# Altium integrated library Capacitor - Aluminium TH.IntLib: 4591 symbols (part 58 of 68)
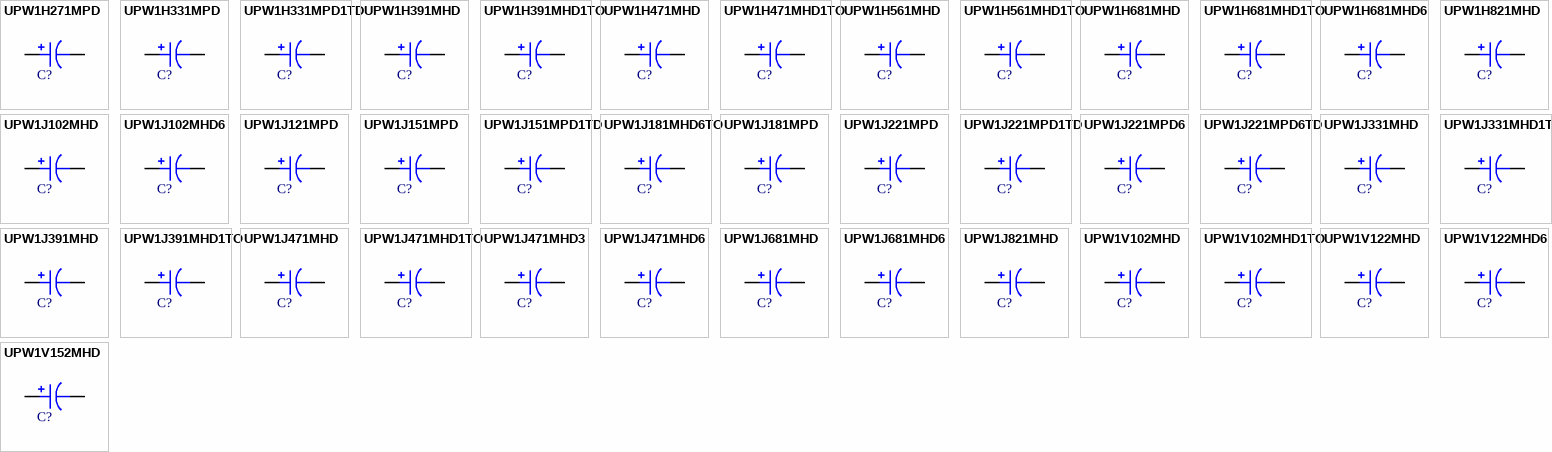
[diagram p171: symbols UPW1H271MPD to UPW1V152MHD]

## UPW1H561MHD
designator C?, comment 560uF  (value not drawn)
CAP ALUM 560UF 20% 50V RADIAL; Part Number: UPW1H561MHD; Manufacturer: Nichicon; TemperatureRange: -55C ~ 105C; Type: Polar; Ripple Current: 1.374A @ 120Hz; Impedance: 50 mOhm; Value: 560uF; PartId: 23567; Supplier 1: Digi-Key; Supplier Part Number 1: 493-1912-ND; ComponentLink1Description: Datasheet; ComponentLink1URL: http://nichicon-us.com/english/products/pdfs/e-upw.pdf; ComponentLink2Description: Digi-Key Listing; ComponentLink2URL: https://www.digikey.com/product-detail/en/nichicon/UPW1H561MHD/493-1912-ND/589653; Tolerance: 20%; Voltage: 50V; Price: 0.93; Device Package: Radial, Can, 12.5mm
footprint CAP AL TH D12.5 L5 H25
pins: 1, 2

## UPW1H561MHD1TO
designator C?, comment 560uF  (value not drawn)
CAP ALUM 560UF 20% 50V RADIAL; Part Number: UPW1H561MHD1TO; Manufacturer: Nichicon; TemperatureRange: -55C ~ 105C; Type: Polar; Ripple Current: 1.374A @ 120Hz; Impedance: 50 mOhm; Value: 560uF; PartId: 23808; Supplier 1: Digi-Key; Supplier Part Number 1: 493-12133-3-ND; ComponentLink1Description: Datasheet; ComponentLink1URL: http://nichicon-us.com/english/products/pdfs/e-upw.pdf; ComponentLink2Description: Digi-Key Listing; ComponentLink2URL: https://www.digikey.com/product-detail/en/nichicon/UPW1H561MHD1TO/493-12133-3-ND/4321276; Tolerance: 20%; Voltage: 50V; Price: 0.3922; Device Package: Radial, Can, 12.5mm
footprint CAP AL TH D12.5 L5 H27
pins: 1, 2

## UPW1H681MHD
designator C?, comment 680uF  (value not drawn)
CAP ALUM 680UF 20% 50V RADIAL; Part Number: UPW1H681MHD; Manufacturer: Nichicon; TemperatureRange: -55C ~ 105C; Type: Polar; Ripple Current: 1.38A @ 120Hz; Impedance: 50 mOhm; Value: 680uF; PartId: 23595; Supplier 1: Digi-Key; Supplier Part Number 1: 493-1913-ND; ComponentLink1Description: Datasheet; ComponentLink1URL: http://nichicon-us.com/english/products/pdfs/e-upw.pdf; ComponentLink2Description: Digi-Key Listing; ComponentLink2URL: https://www.digikey.com/product-detail/en/nichicon/UPW1H681MHD/493-1913-ND/589654; Tolerance: 20%; Voltage: 50V; Price: 1.04; Device Package: Radial, Can, 12.5mm
footprint CAP AL TH D12.5 L5 H25
pins: 1, 2

## UPW1H681MHD1TO
designator C?, comment 680uF  (value not drawn)
CAP ALUM 680UF 20% 50V RADIAL; Part Number: UPW1H681MHD1TO; Manufacturer: Nichicon; TemperatureRange: -55C ~ 105C; Type: Polar; Ripple Current: 1.38A @ 120Hz; Impedance: 50 mOhm; Value: 680uF; PartId: 23997; Supplier 1: Digi-Key; Supplier Part Number 1: 493-12171-1-ND; ComponentLink1Description: Datasheet; ComponentLink1URL: http://nichicon-us.com/english/products/pdfs/e-upw.pdf; ComponentLink2Description: Digi-Key Listing; ComponentLink2URL: https://www.digikey.com/product-detail/en/nichicon/UPW1H681MHD1TO/493-12171-1-ND/4320002; Tolerance: 20%; Voltage: 50V; Price: 1.04; Device Package: Radial, Can, 12.5mm
footprint CAP AL TH D12.5 L5 H27
pins: 1, 2

## UPW1H681MHD6
designator C?, comment 680uF  (value not drawn)
CAP ALUM 680UF 20% 50V RADIAL; Part Number: UPW1H681MHD6; Manufacturer: Nichicon; TemperatureRange: -55C ~ 105C; Type: Polar; Ripple Current: 1.38A @ 120Hz; Impedance: 48 mOhm; Value: 680uF; PartId: 26282; Supplier 1: Digi-Key; Supplier Part Number 1: 493-1914-ND; ComponentLink1Description: Datasheet; ComponentLink1URL: http://nichicon-us.com/english/products/pdfs/e-upw.pdf; ComponentLink2Description: Digi-Key Listing; ComponentLink2URL: https://www.digikey.com/product-detail/en/nichicon/UPW1H681MHD6/493-1914-ND/589655; Tolerance: 20%; Voltage: 50V; Price: 0.99; Device Package: Radial, Can, 16mm
footprint CAP AL TH D16 L7.5 H20
pins: 1, 2

## UPW1H821MHD
designator C?, comment 820uF  (value not drawn)
CAP ALUM 820UF 20% 50V RADIAL; Part Number: UPW1H821MHD; Manufacturer: Nichicon; TemperatureRange: -55C ~ 105C; Type: Polar; Ripple Current: 1.718A @ 120Hz; Impedance: 34 mOhm; Value: 820uF; PartId: 24322; Supplier 1: Digi-Key; Supplier Part Number 1: 493-1915-ND; ComponentLink1Description: Datasheet; ComponentLink1URL: http://nichicon-us.com/english/products/pdfs/e-upw.pdf; ComponentLink2Description: Digi-Key Listing; ComponentLink2URL: https://www.digikey.com/product-detail/en/nichicon/UPW1H821MHD/493-1915-ND/589656; Tolerance: 20%; Voltage: 50V; Price: 1.27; Device Package: Radial, Can, 12.5mm
footprint CAP AL TH D12.5 L5 H35.5
pins: 1, 2

## UPW1J102MHD
designator C?, comment 1000uF  (value not drawn)
CAP ALUM 1000UF 20% 63V RADIAL; Part Number: UPW1J102MHD; Manufacturer: Nichicon; TemperatureRange: -55C ~ 105C; Type: Polar; Ripple Current: 2.078A @ 120Hz; Impedance: 43 mOhm; Value: 1000uF; PartId: 27069; Supplier 1: Digi-Key; Supplier Part Number 1: 493-1956-ND; ComponentLink1Description: Datasheet; ComponentLink1URL: http://nichicon-us.com/english/products/pdfs/e-upw.pdf; ComponentLink2Description: Digi-Key Listing; ComponentLink2URL: https://www.digikey.com/product-detail/en/nichicon/UPW1J102MHD/493-1956-ND/589697; Tolerance: 20%; Voltage: 63V; Price: 1.64; Device Package: Radial, Can, 16mm
footprint CAP AL TH D16 L7.5 H33.5
pins: 1, 2

## UPW1J102MHD6
designator C?, comment 1000uF  (value not drawn)
CAP ALUM 1000UF 20% 63V RADIAL; Part Number: UPW1J102MHD6; Manufacturer: Nichicon; TemperatureRange: -55C ~ 105C; Type: Polar; Ripple Current: 2.078A @ 120Hz; Impedance: 36 mOhm; Value: 1000uF; PartId: 27333; Supplier 1: Digi-Key; Supplier Part Number 1: 493-1957-ND; ComponentLink1Description: Datasheet; ComponentLink1URL: http://nichicon-us.com/english/products/pdfs/e-upw.pdf; ComponentLink2Description: Digi-Key Listing; ComponentLink2URL: https://www.digikey.com/product-detail/en/nichicon/UPW1J102MHD6/493-1957-ND/589698; Tolerance: 20%; Voltage: 63V; Price: 1.63; Device Package: Radial, Can, 16mm
footprint CAP AL TH D16 L7.5 H37
pins: 1, 2

## UPW1J121MPD
designator C?, comment 120uF  (value not drawn)
CAP ALUM 120UF 20% 63V RADIAL; Part Number: UPW1J121MPD; Manufacturer: Nichicon; TemperatureRange: -55C ~ 105C; Type: Polar; Ripple Current: 390mA @ 120Hz; Impedance: 194 mOhm; Value: 120uF; PartId: 25228; Supplier 1: Digi-Key; Supplier Part Number 1: 493-1938-ND; ComponentLink1Description: Datasheet; ComponentLink1URL: http://nichicon-us.com/english/products/pdfs/e-upw.pdf; ComponentLink2Description: Digi-Key Listing; ComponentLink2URL: https://www.digikey.com/product-detail/en/nichicon/UPW1J121MPD/493-1938-ND/589679; Tolerance: 20%; Voltage: 63V; Price: 0.55; Device Package: Radial, Can, 10mm
footprint CAP AL TH D10 L5 H17.5
pins: 1, 2

## UPW1J151MPD
designator C?, comment 150uF  (value not drawn)
CAP ALUM 150UF 20% 63V RADIAL; Part Number: UPW1J151MPD; Manufacturer: Nichicon; TemperatureRange: -55C ~ 105C; Type: Polar; Ripple Current: 429mA @ 120Hz; Impedance: 194 mOhm; Value: 150uF; PartId: 25208; Supplier 1: Digi-Key; Supplier Part Number 1: 493-1939-ND; ComponentLink1Description: Datasheet; ComponentLink1URL: http://nichicon-us.com/english/products/pdfs/e-upw.pdf; ComponentLink2Description: Digi-Key Listing; ComponentLink2URL: https://www.digikey.com/product-detail/en/nichicon/UPW1J151MPD/493-1939-ND/589680; Tolerance: 20%; Voltage: 63V; Price: 0.51; Device Package: Radial, Can, 10mm
footprint CAP AL TH D10 L5 H17.5
pins: 1, 2

## UPW1J151MPD1TD
designator C?, comment 150uF  (value not drawn)
CAP ALUM 150UF 20% 63V RADIAL; Part Number: UPW1J151MPD1TD; Manufacturer: Nichicon; TemperatureRange: -55C ~ 105C; Type: Polar; Ripple Current: 429mA @ 120Hz; Impedance: 194 mOhm; Value: 150uF; PartId: 25032; Supplier 1: Digi-Key; Supplier Part Number 1: 493-11873-3-ND; ComponentLink1Description: Datasheet; ComponentLink1URL: http://nichicon-us.com/english/products/pdfs/e-upw.pdf; ComponentLink2Description: Digi-Key Listing; ComponentLink2URL: https://www.digikey.com/product-detail/en/nichicon/UPW1J151MPD1TD/493-11873-3-ND/4321016; Tolerance: 20%; Voltage: 63V; Price: 0.1766; Device Package: Radial, Can, 10mm
footprint CAP AL TH D10 L5 H17.5
pins: 1, 2

## UPW1J181MHD6TO
designator C?, comment 180uF  (value not drawn)
CAP ALUM 180UF 20% 63V RADIAL; Part Number: UPW1J181MHD6TO; Manufacturer: Nichicon; TemperatureRange: -55C ~ 105C; Type: Polar; Ripple Current: 663mA @ 120Hz; Impedance: 150 mOhm; Value: 180uF; PartId: 22749; Supplier 1: Digi-Key; Supplier Part Number 1: 493-12046-1-ND; ComponentLink1Description: Datasheet; ComponentLink1URL: http://nichicon-us.com/english/products/pdfs/e-upw.pdf; ComponentLink2Description: Digi-Key Listing; ComponentLink2URL: https://www.digikey.com/product-detail/en/nichicon/UPW1J181MHD6TO/493-12046-1-ND/4320015; Tolerance: 20%; Voltage: 63V; Price: 0; Device Package: Radial, Can, 12.5mm
footprint CAP AL TH D12.5 L5 H16.5
pins: 1, 2

## UPW1J181MPD
designator C?, comment 180uF  (value not drawn)
CAP ALUM 180UF 20% 63V RADIAL; Part Number: UPW1J181MPD; Manufacturer: Nichicon; TemperatureRange: -55C ~ 105C; Type: Polar; Ripple Current: 578.5mA @ 120Hz; Impedance: 147 mOhm; Value: 180uF; PartId: 25650; Supplier 1: Digi-Key; Supplier Part Number 1: 493-1941-ND; ComponentLink1Description: Datasheet; ComponentLink1URL: http://nichicon-us.com/english/products/pdfs/e-upw.pdf; ComponentLink2Description: Digi-Key Listing; ComponentLink2URL: https://www.digikey.com/product-detail/en/nichicon/UPW1J181MPD/493-1941-ND/589682; Tolerance: 20%; Voltage: 63V; Price: 0.74; Device Package: Radial, Can, 10mm
footprint CAP AL TH D10 L5 H22
pins: 1, 2

## UPW1J221MPD
designator C?, comment 220uF  (value not drawn)
CAP ALUM 220UF 20% 63V RADIAL; Part Number: UPW1J221MPD; Manufacturer: Nichicon; TemperatureRange: -55C ~ 105C; Type: Polar; Ripple Current: 575.3mA @ 120Hz; Impedance: 147 mOhm; Value: 220uF; PartId: 25609; Supplier 1: Digi-Key; Supplier Part Number 1: 493-1942-ND; ComponentLink1Description: Datasheet; ComponentLink1URL: http://nichicon-us.com/english/products/pdfs/e-upw.pdf; ComponentLink2Description: Digi-Key Listing; ComponentLink2URL: https://www.digikey.com/product-detail/en/nichicon/UPW1J221MPD/493-1942-ND/589683; Tolerance: 20%; Voltage: 63V; Price: 0.7; Device Package: Radial, Can, 10mm
footprint CAP AL TH D10 L5 H22
pins: 1, 2

## UPW1J221MPD1TD
designator C?, comment 220uF  (value not drawn)
CAP ALUM 220UF 20% 63V RADIAL; Part Number: UPW1J221MPD1TD; Manufacturer: Nichicon; TemperatureRange: -55C ~ 105C; Type: Polar; Ripple Current: 575.3mA @ 120Hz; Impedance: 147 mOhm; Value: 220uF; PartId: 25776; Supplier 1: Digi-Key; Supplier Part Number 1: 493-11969-3-ND; ComponentLink1Description: Datasheet; ComponentLink1URL: http://nichicon-us.com/english/products/pdfs/e-upw.pdf; ComponentLink2Description: Digi-Key Listing; ComponentLink2URL: https://www.digikey.com/product-detail/en/nichicon/UPW1J221MPD1TD/493-11969-3-ND/4321112; Tolerance: 20%; Voltage: 63V; Price: 0.2426; Device Package: Radial, Can, 10mm
footprint CAP AL TH D10 L5 H22
pins: 1, 2

## UPW1J221MPD6
designator C?, comment 220uF  (value not drawn)
CAP ALUM 220UF 20% 63V RADIAL; Part Number: UPW1J221MPD6; Manufacturer: Nichicon; TemperatureRange: -55C ~ 105C; Type: Polar; Ripple Current: 683mA @ 120Hz; Impedance: 130 mOhm; Value: 220uF; PartId: 26138; Supplier 1: Digi-Key; Supplier Part Number 1: 493-1943-ND; ComponentLink1Description: Datasheet; ComponentLink1URL: http://nichicon-us.com/english/products/pdfs/e-upw.pdf; ComponentLink2Description: Digi-Key Listing; ComponentLink2URL: https://www.digikey.com/product-detail/en/nichicon/UPW1J221MPD6/493-1943-ND/589684; Tolerance: 20%; Voltage: 63V; Price: 0.82; Device Package: Radial, Can, 10mm
footprint CAP AL TH D10 L5 H30
pins: 1, 2

## UPW1J221MPD6TD
designator C?, comment 220uF  (value not drawn)
CAP ALUM 220UF 20% 63V RADIAL; Part Number: UPW1J221MPD6TD; Manufacturer: Nichicon; TemperatureRange: -55C ~ 105C; Type: Polar; Ripple Current: 683mA @ 120Hz; Impedance: 130 mOhm; Value: 220uF; PartId: 26017; Supplier 1: Digi-Key; Supplier Part Number 1: 493-12090-3-ND; ComponentLink1Description: Datasheet; ComponentLink1URL: http://nichicon-us.com/english/products/pdfs/e-upw.pdf; ComponentLink2Description: Digi-Key Listing; ComponentLink2URL: https://www.digikey.com/product-detail/en/nichicon/UPW1J221MPD6TD/493-12090-3-ND/4321233; Tolerance: 20%; Voltage: 63V; Price: 0.3439; Device Package: Radial, Can, 10mm
footprint CAP AL TH D10 L5 H30
pins: 1, 2

## UPW1J331MHD
designator C?, comment 330uF  (value not drawn)
CAP ALUM 330UF 20% 63V RADIAL; Part Number: UPW1J331MHD; Manufacturer: Nichicon; TemperatureRange: -55C ~ 105C; Type: Polar; Ripple Current: 839mA @ 120Hz; Impedance: 85 mOhm; Value: 330uF; PartId: 22872; Supplier 1: Digi-Key; Supplier Part Number 1: 493-1945-ND; ComponentLink1Description: Datasheet; ComponentLink1URL: http://nichicon-us.com/english/products/pdfs/e-upw.pdf; ComponentLink2Description: Digi-Key Listing; ComponentLink2URL: https://www.digikey.com/product-detail/en/nichicon/UPW1J331MHD/493-1945-ND/589686; Tolerance: 20%; Voltage: 63V; Price: 0; Device Package: Radial, Can, 12.5mm
footprint CAP AL TH D12.5 L5 H20
pins: 1, 2

## UPW1J331MHD1TO
designator C?, comment 330uF  (value not drawn)
CAP ALUM 330UF 20% 63V RADIAL; Part Number: UPW1J331MHD1TO; Manufacturer: Nichicon; TemperatureRange: -55C ~ 105C; Type: Polar; Ripple Current: 839mA @ 120Hz; Impedance: 85 mOhm; Value: 330uF; PartId: 23152; Supplier 1: Digi-Key; Supplier Part Number 1: 493-12026-3-ND; ComponentLink1Description: Datasheet; ComponentLink1URL: http://nichicon-us.com/english/products/pdfs/e-upw.pdf; ComponentLink2Description: Digi-Key Listing; ComponentLink2URL: https://www.digikey.com/product-detail/en/nichicon/UPW1J331MHD1TO/493-12026-3-ND/4321169; Tolerance: 20%; Voltage: 63V; Price: 0.2973; Device Package: Radial, Can, 12.5mm
footprint CAP AL TH D12.5 L5 H22
pins: 1, 2

## UPW1J391MHD
designator C?, comment 390uF  (value not drawn)
CAP ALUM 390UF 20% 63V RADIAL; Part Number: UPW1J391MHD; Manufacturer: Nichicon; TemperatureRange: -55C ~ 105C; Type: Polar; Ripple Current: 1.29A @ 120Hz; Impedance: 70 mOhm; Value: 390uF; PartId: 23560; Supplier 1: Digi-Key; Supplier Part Number 1: 493-1946-ND; ComponentLink1Description: Datasheet; ComponentLink1URL: http://nichicon-us.com/english/products/pdfs/e-upw.pdf; ComponentLink2Description: Digi-Key Listing; ComponentLink2URL: https://www.digikey.com/product-detail/en/nichicon/UPW1J391MHD/493-1946-ND/589687; Tolerance: 20%; Voltage: 63V; Price: 0.87; Device Package: Radial, Can, 12.5mm
footprint CAP AL TH D12.5 L5 H25
pins: 1, 2

## UPW1J391MHD1TO
designator C?, comment 390uF  (value not drawn)
CAP ALUM 390UF 20% 63V RADIAL; Part Number: UPW1J391MHD1TO; Manufacturer: Nichicon; TemperatureRange: -55C ~ 105C; Type: Polar; Ripple Current: 1.29A @ 120Hz; Impedance: 70 mOhm; Value: 390uF; PartId: 23960; Supplier 1: Digi-Key; Supplier Part Number 1: 493-12110-1-ND; ComponentLink1Description: Datasheet; ComponentLink1URL: http://nichicon-us.com/english/products/pdfs/e-upw.pdf; ComponentLink2Description: Digi-Key Listing; ComponentLink2URL: https://www.digikey.com/product-detail/en/nichicon/UPW1J391MHD1TO/493-12110-1-ND/4320024; Tolerance: 20%; Voltage: 63V; Price: 0.98; Device Package: Radial, Can, 12.5mm
footprint CAP AL TH D12.5 L5 H27
pins: 1, 2

## UPW1J471MHD
designator C?, comment 470uF  (value not drawn)
CAP ALUM 470UF 20% 63V RADIAL; Part Number: UPW1J471MHD; Manufacturer: Nichicon; TemperatureRange: -55C ~ 105C; Type: Polar; Ripple Current: 1.29A @ 120Hz; Impedance: 70 mOhm; Value: 470uF; PartId: 23556; Supplier 1: Digi-Key; Supplier Part Number 1: 493-1948-ND; ComponentLink1Description: Datasheet; ComponentLink1URL: http://nichicon-us.com/english/products/pdfs/e-upw.pdf; ComponentLink2Description: Digi-Key Listing; ComponentLink2URL: https://www.digikey.com/product-detail/en/nichicon/UPW1J471MHD/493-1948-ND/589689; Tolerance: 20%; Voltage: 63V; Price: 0.87; Device Package: Radial, Can, 12.5mm
footprint CAP AL TH D12.5 L5 H25
pins: 1, 2

## UPW1J471MHD1TO
designator C?, comment 470uF  (value not drawn)
CAP ALUM 470UF 20% 63V RADIAL; Part Number: UPW1J471MHD1TO; Manufacturer: Nichicon; TemperatureRange: -55C ~ 105C; Type: Polar; Ripple Current: 1.29A @ 120Hz; Impedance: 70 mOhm; Value: 470uF; PartId: 23946; Supplier 1: Digi-Key; Supplier Part Number 1: 493-12108-1-ND; ComponentLink1Description: Datasheet; ComponentLink1URL: http://nichicon-us.com/english/products/pdfs/e-upw.pdf; ComponentLink2Description: Digi-Key Listing; ComponentLink2URL: https://www.digikey.com/product-detail/en/nichicon/UPW1J471MHD1TO/493-12108-1-ND/4320027; Tolerance: 20%; Voltage: 63V; Price: 0.97; Device Package: Radial, Can, 12.5mm
footprint CAP AL TH D12.5 L5 H27
pins: 1, 2

## UPW1J471MHD3
designator C?, comment 470uF  (value not drawn)
CAP ALUM 470UF 20% 63V RADIAL; Part Number: UPW1J471MHD3; Manufacturer: Nichicon; TemperatureRange: -55C ~ 105C; Type: Polar; Ripple Current: 2.52A @ 120Hz; Impedance: 59 mOhm; Value: 470uF; PartId: 26279; Supplier 1: Digi-Key; Supplier Part Number 1: 493-1949-ND; ComponentLink1Description: Datasheet; ComponentLink1URL: http://nichicon-us.com/english/products/pdfs/e-upw.pdf; ComponentLink2Description: Digi-Key Listing; ComponentLink2URL: https://www.digikey.com/product-detail/en/nichicon/UPW1J471MHD3/493-1949-ND/589690; Tolerance: 20%; Voltage: 63V; Price: 0.96; Device Package: Radial, Can, 16mm
footprint CAP AL TH D16 L7.5 H20
pins: 1, 2

## UPW1J471MHD6
designator C?, comment 470uF  (value not drawn)
CAP ALUM 470UF 20% 63V RADIAL; Part Number: UPW1J471MHD6; Manufacturer: Nichicon; TemperatureRange: -55C ~ 105C; Type: Polar; Ripple Current: 1.568A @ 120Hz; Impedance: 55 mOhm; Value: 470uF; PartId: 24217; Supplier 1: Digi-Key; Supplier Part Number 1: 493-1950-ND; ComponentLink1Description: Datasheet; ComponentLink1URL: http://nichicon-us.com/english/products/pdfs/e-upw.pdf; ComponentLink2Description: Digi-Key Listing; ComponentLink2URL: https://www.digikey.com/product-detail/en/nichicon/UPW1J471MHD6/493-1950-ND/589691; Tolerance: 20%; Voltage: 63V; Price: 0.96; Device Package: Radial, Can, 12.5mm
footprint CAP AL TH D12.5 L5 H35.5
pins: 1, 2

## UPW1J681MHD
designator C?, comment 680uF  (value not drawn)
CAP ALUM 680UF 20% 63V RADIAL; Part Number: UPW1J681MHD; Manufacturer: Nichicon; TemperatureRange: -55C ~ 105C; Type: Polar; Ripple Current: 1.62A @ 120Hz; Impedance: 50 mOhm; Value: 680uF; PartId: 26554; Supplier 1: Digi-Key; Supplier Part Number 1: 493-1951-ND; ComponentLink1Description: Datasheet; ComponentLink1URL: http://nichicon-us.com/english/products/pdfs/e-upw.pdf; ComponentLink2Description: Digi-Key Listing; ComponentLink2URL: https://www.digikey.com/product-detail/en/nichicon/UPW1J681MHD/493-1951-ND/589692; Tolerance: 20%; Voltage: 63V; Price: 1.07; Device Package: Radial, Can, 16mm
footprint CAP AL TH D16 L7.5 H26.5
pins: 1, 2

## UPW1J681MHD6
designator C?, comment 680uF  (value not drawn)
CAP ALUM 680UF 20% 63V RADIAL; Part Number: UPW1J681MHD6; Manufacturer: Nichicon; TemperatureRange: -55C ~ 105C; Type: Polar; Ripple Current: 1.703A @ 120Hz; Impedance: 47 mOhm; Value: 680uF; PartId: 24305; Supplier 1: Digi-Key; Supplier Part Number 1: 493-1953-ND; ComponentLink1Description: Datasheet; ComponentLink1URL: http://nichicon-us.com/english/products/pdfs/e-upw.pdf; ComponentLink2Description: Digi-Key Listing; ComponentLink2URL: https://www.digikey.com/product-detail/en/nichicon/UPW1J681MHD6/493-1953-ND/589694; Tolerance: 20%; Voltage: 63V; Price: 1.22; Device Package: Radial, Can, 12.5mm
footprint CAP AL TH D12.5 L5 H35.5
pins: 1, 2

## UPW1J821MHD
designator C?, comment 820uF  (value not drawn)
CAP ALUM 820UF 20% 63V RADIAL; Part Number: UPW1J821MHD; Manufacturer: Nichicon; TemperatureRange: -55C ~ 105C; Type: Polar; Ripple Current: 2.003A @ 120Hz; Impedance: 43 mOhm; Value: 820uF; PartId: 27080; Supplier 1: Digi-Key; Supplier Part Number 1: 493-1954-ND; ComponentLink1Description: Datasheet; ComponentLink1URL: http://nichicon-us.com/english/products/pdfs/e-upw.pdf; ComponentLink2Description: Digi-Key Listing; ComponentLink2URL: https://www.digikey.com/product-detail/en/nichicon/UPW1J821MHD/493-1954-ND/589695; Tolerance: 20%; Voltage: 63V; Price: 1.68; Device Package: Radial, Can, 16mm
footprint CAP AL TH D16 L7.5 H33.5
pins: 1, 2

## UPW1V102MHD
designator C?, comment 1000uF  (value not drawn)
CAP ALUM 1000UF 20% 35V RADIAL; Part Number: UPW1V102MHD; Manufacturer: Nichicon; TemperatureRange: -55C ~ 105C; Type: Polar; Ripple Current: 1.463A @ 120Hz; Impedance: 30 mOhm; Value: 1000uF; PartId: 23596; Supplier 1: Digi-Key; Supplier Part Number 1: 493-1872-ND; ComponentLink1Description: Datasheet; ComponentLink1URL: http://nichicon-us.com/english/products/pdfs/e-upw.pdf; ComponentLink2Description: Digi-Key Listing; ComponentLink2URL: https://www.digikey.com/product-detail/en/nichicon/UPW1V102MHD/493-1872-ND/589613; Tolerance: 20%; Voltage: 35V; Price: 1.04; Device Package: Radial, Can, 12.5mm
footprint CAP AL TH D12.5 L5 H25
pins: 1, 2

## UPW1V102MHD1TO
designator C?, comment 1000uF  (value not drawn)
CAP ALUM 1000UF 20% 35V RADIAL; Part Number: UPW1V102MHD1TO; Manufacturer: Nichicon; TemperatureRange: -55C ~ 105C; Type: Polar; Ripple Current: 1.463A @ 120Hz; Impedance: 30 mOhm; Value: 1000uF; PartId: 23984; Supplier 1: Digi-Key; Supplier Part Number 1: 493-12168-1-ND; ComponentLink1Description: Datasheet; ComponentLink1URL: http://nichicon-us.com/english/products/pdfs/e-upw.pdf; ComponentLink2Description: Digi-Key Listing; ComponentLink2URL: https://www.digikey.com/product-detail/en/nichicon/UPW1V102MHD1TO/493-12168-1-ND/4320039; Tolerance: 20%; Voltage: 35V; Price: 1.03; Device Package: Radial, Can, 12.5mm
footprint CAP AL TH D12.5 L5 H27
pins: 1, 2

## UPW1V122MHD
designator C?, comment 1200uF  (value not drawn)
CAP ALUM 1200UF 20% 35V RADIAL; Part Number: UPW1V122MHD; Manufacturer: Nichicon; TemperatureRange: -55C ~ 105C; Type: Polar; Ripple Current: 1.964A @ 120Hz; Impedance: 25 mOhm; Value: 1200uF; PartId: 24283; Supplier 1: Digi-Key; Supplier Part Number 1: 493-1873-ND; ComponentLink1Description: Datasheet; ComponentLink1URL: http://nichicon-us.com/english/products/pdfs/e-upw.pdf; ComponentLink2Description: Digi-Key Listing; ComponentLink2URL: https://www.digikey.com/product-detail/en/nichicon/UPW1V122MHD/493-1873-ND/589614; Tolerance: 20%; Voltage: 35V; Price: 1.1; Device Package: Radial, Can, 12.5mm
footprint CAP AL TH D12.5 L5 H35.5
pins: 1, 2

## UPW1V122MHD6
designator C?, comment 1200uF  (value not drawn)
CAP ALUM 1200UF 20% 35V RADIAL; Part Number: UPW1V122MHD6; Manufacturer: Nichicon; TemperatureRange: -55C ~ 105C; Type: Polar; Ripple Current: 1.879A @ 120Hz; Impedance: 29 mOhm; Value: 1200uF; PartId: 26309; Supplier 1: Digi-Key; Supplier Part Number 1: 493-1874-ND; ComponentLink1Description: Datasheet; ComponentLink1URL: http://nichicon-us.com/english/products/pdfs/e-upw.pdf; ComponentLink2Description: Digi-Key Listing; ComponentLink2URL: https://www.digikey.com/product-detail/en/nichicon/UPW1V122MHD6/493-1874-ND/589615; Tolerance: 20%; Voltage: 35V; Price: 1.17; Device Package: Radial, Can, 16mm
footprint CAP AL TH D16 L7.5 H20
pins: 1, 2

## UPW1V152MHD
designator C?, comment 1500uF  (value not drawn)
CAP ALUM 1500UF 20% 35V RADIAL; Part Number: UPW1V152MHD; Manufacturer: Nichicon; TemperatureRange: -55C ~ 105C; Type: Polar; Ripple Current: 2.172A @ 120Hz; Impedance: 22 mOhm; Value: 1500uF; PartId: 26577; Supplier 1: Digi-Key; Supplier Part Number 1: 493-1875-ND; ComponentLink1Description: Datasheet; ComponentLink1URL: http://nichicon-us.com/english/products/pdfs/e-upw.pdf; ComponentLink2Description: Digi-Key Listing; ComponentLink2URL: https://www.digikey.com/product-detail/en/nichicon/UPW1V152MHD/493-1875-ND/589616; Tolerance: 20%; Voltage: 35V; Price: 1.21; Device Package: Radial, Can, 16mm
footprint CAP AL TH D16 L7.5 H26.5
pins: 1, 2

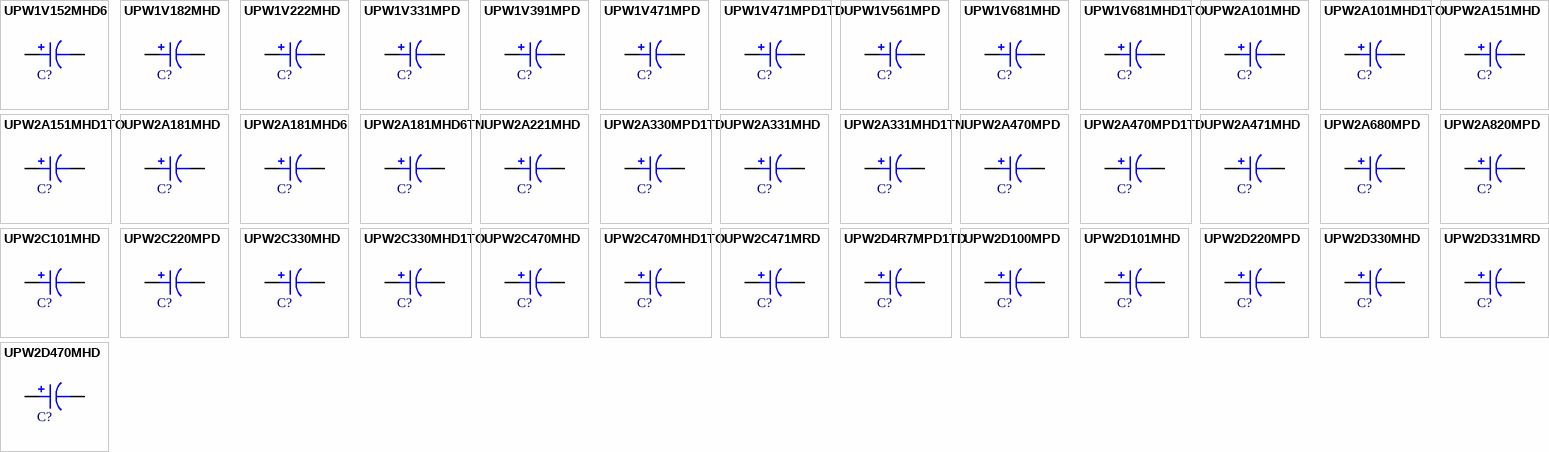
[diagram p97: symbols UPW1V152MHD6 to UPW2D470MHD]

## UPW1V152MHD6
designator C?, comment 1500uF  (value not drawn)
CAP ALUM 1500UF 20% 35V RADIAL; Part Number: UPW1V152MHD6; Manufacturer: Nichicon; TemperatureRange: -55C ~ 105C; Type: Polar; Ripple Current: 2.134A @ 120Hz; Impedance: 22 mOhm; Value: 1500uF; PartId: 24316; Supplier 1: Digi-Key; Supplier Part Number 1: 493-1876-ND; ComponentLink1Description: Datasheet; ComponentLink1URL: http://nichicon-us.com/english/products/pdfs/e-upw.pdf; ComponentLink2Description: Digi-Key Listing; ComponentLink2URL: https://www.digikey.com/product-detail/en/nichicon/UPW1V152MHD6/493-1876-ND/589617; Tolerance: 20%; Voltage: 35V; Price: 1.25; Device Package: Radial, Can, 12.5mm
footprint CAP AL TH D12.5 L5 H35.5
pins: 1, 2

## UPW1V182MHD
designator C?, comment 1800uF  (value not drawn)
CAP ALUM 1800UF 20% 35V RADIAL; Part Number: UPW1V182MHD; Manufacturer: Nichicon; TemperatureRange: -55C ~ 105C; Type: Polar; Ripple Current: 2.168A @ 120Hz; Impedance: 22 mOhm; Value: 1800uF; PartId: 26597; Supplier 1: Digi-Key; Supplier Part Number 1: 493-1877-ND; ComponentLink1Description: Datasheet; ComponentLink1URL: http://nichicon-us.com/english/products/pdfs/e-upw.pdf; ComponentLink2Description: Digi-Key Listing; ComponentLink2URL: https://www.digikey.com/product-detail/en/nichicon/UPW1V182MHD/493-1877-ND/589618; Tolerance: 20%; Voltage: 35V; Price: 1.32; Device Package: Radial, Can, 16mm
footprint CAP AL TH D16 L7.5 H26.5
pins: 1, 2

## UPW1V222MHD
designator C?, comment 2200uF  (value not drawn)
CAP ALUM 2200UF 20% 35V RADIAL; Part Number: UPW1V222MHD; Manufacturer: Nichicon; TemperatureRange: -55C ~ 105C; Type: Polar; Ripple Current: 2.559A @ 120Hz; Impedance: 18 mOhm; Value: 2200uF; PartId: 27054; Supplier 1: Digi-Key; Supplier Part Number 1: 493-1879-ND; ComponentLink1Description: Datasheet; ComponentLink1URL: http://nichicon-us.com/english/products/pdfs/e-upw.pdf; ComponentLink2Description: Digi-Key Listing; ComponentLink2URL: https://www.digikey.com/product-detail/en/nichicon/UPW1V222MHD/493-1879-ND/589620; Tolerance: 20%; Voltage: 35V; Price: 1.58; Device Package: Radial, Can, 16mm
footprint CAP AL TH D16 L7.5 H33.5
pins: 1, 2

## UPW1V331MPD
designator C?, comment 330uF  (value not drawn)
CAP ALUM 330UF 20% 35V RADIAL; Part Number: UPW1V331MPD; Manufacturer: Nichicon; TemperatureRange: -55C ~ 105C; Type: Polar; Ripple Current: 683mA @ 120Hz; Impedance: 68 mOhm; Value: 330uF; PartId: 25294; Supplier 1: Digi-Key; Supplier Part Number 1: 493-1865-ND; ComponentLink1Description: Datasheet; ComponentLink1URL: http://nichicon-us.com/english/products/pdfs/e-upw.pdf; ComponentLink2Description: Digi-Key Listing; ComponentLink2URL: https://www.digikey.com/product-detail/en/nichicon/UPW1V331MPD/493-1865-ND/589606; Tolerance: 20%; Voltage: 35V; Price: 0.63; Device Package: Radial, Can, 10mm
footprint CAP AL TH D10 L5 H17.5
pins: 1, 2

## UPW1V391MPD
designator C?, comment 390uF  (value not drawn)
CAP ALUM 390UF 20% 35V RADIAL; Part Number: UPW1V391MPD; Manufacturer: Nichicon; TemperatureRange: -55C ~ 105C; Type: Polar; Ripple Current: 915mA @ 120Hz; Impedance: 52 mOhm; Value: 390uF; PartId: 25620; Supplier 1: Digi-Key; Supplier Part Number 1: 493-1867-ND; ComponentLink1Description: Datasheet; ComponentLink1URL: http://nichicon-us.com/english/products/pdfs/e-upw.pdf; ComponentLink2Description: Digi-Key Listing; ComponentLink2URL: https://www.digikey.com/product-detail/en/nichicon/UPW1V391MPD/493-1867-ND/589608; Tolerance: 20%; Voltage: 35V; Price: 0.7; Device Package: Radial, Can, 10mm
footprint CAP AL TH D10 L5 H22
pins: 1, 2

## UPW1V471MPD
designator C?, comment 470uF  (value not drawn)
CAP ALUM 470UF 20% 35V RADIAL; Part Number: UPW1V471MPD; Manufacturer: Nichicon; TemperatureRange: -55C ~ 105C; Type: Polar; Ripple Current: 915mA @ 120Hz; Impedance: 52 mOhm; Value: 470uF; PartId: 25517; Supplier 1: Digi-Key; Supplier Part Number 1: 493-1868-ND; ComponentLink1Description: Datasheet; ComponentLink1URL: http://nichicon-us.com/english/products/pdfs/e-upw.pdf; ComponentLink2Description: Digi-Key Listing; ComponentLink2URL: https://www.digikey.com/product-detail/en/nichicon/UPW1V471MPD/493-1868-ND/589609; Tolerance: 20%; Voltage: 35V; Price: 0.58; Device Package: Radial, Can, 10mm
footprint CAP AL TH D10 L5 H22
pins: 1, 2

## UPW1V471MPD1TD
designator C?, comment 470uF  (value not drawn)
CAP ALUM 470UF 20% 35V RADIAL; Part Number: UPW1V471MPD1TD; Manufacturer: Nichicon; TemperatureRange: -55C ~ 105C; Type: Polar; Ripple Current: 915mA @ 120Hz; Impedance: 52 mOhm; Value: 470uF; PartId: 25749; Supplier 1: Digi-Key; Supplier Part Number 1: 493-11916-3-ND; ComponentLink1Description: Datasheet; ComponentLink1URL: http://nichicon-us.com/english/products/pdfs/e-upw.pdf; ComponentLink2Description: Digi-Key Listing; ComponentLink2URL: https://www.digikey.com/product-detail/en/nichicon/UPW1V471MPD1TD/493-11916-3-ND/4321059; Tolerance: 20%; Voltage: 35V; Price: 0.201; Device Package: Radial, Can, 10mm
footprint CAP AL TH D10 L5 H22
pins: 1, 2

## UPW1V561MPD
designator C?, comment 560uF  (value not drawn)
CAP ALUM 560UF 20% 35V RADIAL; Part Number: UPW1V561MPD; Manufacturer: Nichicon; TemperatureRange: -55C ~ 105C; Type: Polar; Ripple Current: 1.08A @ 120Hz; Impedance: 45 mOhm; Value: 560uF; PartId: 26125; Supplier 1: Digi-Key; Supplier Part Number 1: 493-1869-ND; ComponentLink1Description: Datasheet; ComponentLink1URL: http://nichicon-us.com/english/products/pdfs/e-upw.pdf; ComponentLink2Description: Digi-Key Listing; ComponentLink2URL: https://www.digikey.com/product-detail/en/nichicon/UPW1V561MPD/493-1869-ND/589610; Tolerance: 20%; Voltage: 35V; Price: 0.78; Device Package: Radial, Can, 10mm
footprint CAP AL TH D10 L5 H30
pins: 1, 2

## UPW1V681MHD
designator C?, comment 680uF  (value not drawn)
CAP ALUM 680UF 20% 35V RADIAL; Part Number: UPW1V681MHD; Manufacturer: Nichicon; TemperatureRange: -55C ~ 105C; Type: Polar; Ripple Current: 1.245A @ 120Hz; Impedance: 38 mOhm; Value: 680uF; PartId: 22892; Supplier 1: Digi-Key; Supplier Part Number 1: 493-1870-ND; ComponentLink1Description: Datasheet; ComponentLink1URL: http://nichicon-us.com/english/products/pdfs/e-upw.pdf; ComponentLink2Description: Digi-Key Listing; ComponentLink2URL: https://www.digikey.com/product-detail/en/nichicon/UPW1V681MHD/493-1870-ND/589611; Tolerance: 20%; Voltage: 35V; Price: 0; Device Package: Radial, Can, 12.5mm
footprint CAP AL TH D12.5 L5 H20
pins: 1, 2

## UPW1V681MHD1TO
designator C?, comment 680uF  (value not drawn)
CAP ALUM 680UF 20% 35V RADIAL; Part Number: UPW1V681MHD1TO; Manufacturer: Nichicon; TemperatureRange: -55C ~ 105C; Type: Polar; Ripple Current: 1.245A @ 120Hz; Impedance: 38 mOhm; Value: 680uF; PartId: 23326; Supplier 1: Digi-Key; Supplier Part Number 1: 493-12059-1-ND; ComponentLink1Description: Datasheet; ComponentLink1URL: http://nichicon-us.com/english/products/pdfs/e-upw.pdf; ComponentLink2Description: Digi-Key Listing; ComponentLink2URL: https://www.digikey.com/product-detail/en/nichicon/UPW1V681MHD1TO/493-12059-1-ND/4320063; Tolerance: 20%; Voltage: 35V; Price: 0.82; Device Package: Radial, Can, 12.5mm
footprint CAP AL TH D12.5 L5 H22
pins: 1, 2

## UPW2A101MHD
designator C?, comment 100uF  (value not drawn)
CAP ALUM 100UF 20% 100V RADIAL; Part Number: UPW2A101MHD; Manufacturer: Nichicon; TemperatureRange: -55C ~ 105C; Type: Polar; Ripple Current: 377mA @ 120Hz; Impedance: 180 mOhm; Value: 100uF; PartId: 22875; Supplier 1: Digi-Key; Supplier Part Number 1: 493-1977-ND; ComponentLink1Description: Datasheet; ComponentLink1URL: http://nichicon-us.com/english/products/pdfs/e-upw.pdf; ComponentLink2Description: Digi-Key Listing; ComponentLink2URL: https://www.digikey.com/product-detail/en/nichicon/UPW2A101MHD/493-1977-ND/589718; Tolerance: 20%; Voltage: 100V; Price: 0; Device Package: Radial, Can, 12.5mm
footprint CAP AL TH D12.5 L5 H20
pins: 1, 2

## UPW2A101MHD1TO
designator C?, comment 100uF  (value not drawn)
CAP ALUM 100UF 20% 100V RADIAL; Part Number: UPW2A101MHD1TO; Manufacturer: Nichicon; TemperatureRange: -55C ~ 105C; Type: Polar; Ripple Current: 377mA @ 120Hz; Impedance: 180 mOhm; Value: 100uF; PartId: 23358; Supplier 1: Digi-Key; Supplier Part Number 1: 493-12036-1-ND; ComponentLink1Description: Datasheet; ComponentLink1URL: http://nichicon-us.com/english/products/pdfs/e-upw.pdf; ComponentLink2Description: Digi-Key Listing; ComponentLink2URL: https://www.digikey.com/product-detail/en/nichicon/UPW2A101MHD1TO/493-12036-1-ND/4320068; Tolerance: 20%; Voltage: 100V; Price: 0.85; Device Package: Radial, Can, 12.5mm
footprint CAP AL TH D12.5 L5 H22
pins: 1, 2

## UPW2A151MHD
designator C?, comment 150uF  (value not drawn)
CAP ALUM 150UF 20% 100V RADIAL; Part Number: UPW2A151MHD; Manufacturer: Nichicon; TemperatureRange: -55C ~ 105C; Type: Polar; Ripple Current: 461.5mA @ 120Hz; Impedance: 130 mOhm; Value: 150uF; PartId: 23542; Supplier 1: Digi-Key; Supplier Part Number 1: 493-1978-ND; ComponentLink1Description: Datasheet; ComponentLink1URL: http://nichicon-us.com/english/products/pdfs/e-upw.pdf; ComponentLink2Description: Digi-Key Listing; ComponentLink2URL: https://www.digikey.com/product-detail/en/nichicon/UPW2A151MHD/493-1978-ND/589719; Tolerance: 20%; Voltage: 100V; Price: 0.81; Device Package: Radial, Can, 12.5mm
footprint CAP AL TH D12.5 L5 H25
pins: 1, 2

## UPW2A151MHD1TO
designator C?, comment 150uF  (value not drawn)
CAP ALUM 150UF 20% 100V RADIAL; Part Number: UPW2A151MHD1TO; Manufacturer: Nichicon; TemperatureRange: -55C ~ 105C; Type: Polar; Ripple Current: 461.5mA @ 120Hz; Impedance: 130 mOhm; Value: 150uF; PartId: 23801; Supplier 1: Digi-Key; Supplier Part Number 1: 493-12086-3-ND; ComponentLink1Description: Datasheet; ComponentLink1URL: http://nichicon-us.com/english/products/pdfs/e-upw.pdf; ComponentLink2Description: Digi-Key Listing; ComponentLink2URL: https://www.digikey.com/product-detail/en/nichicon/UPW2A151MHD1TO/493-12086-3-ND/4321229; Tolerance: 20%; Voltage: 100V; Price: 0.3427; Device Package: Radial, Can, 12.5mm
footprint CAP AL TH D12.5 L5 H27
pins: 1, 2

## UPW2A181MHD
designator C?, comment 180uF  (value not drawn)
CAP ALUM 180UF 20% 100V RADIAL; Part Number: UPW2A181MHD; Manufacturer: Nichicon; TemperatureRange: -55C ~ 105C; Type: Polar; Ripple Current: 513.5mA @ 120Hz; Impedance: 120 mOhm; Value: 180uF; PartId: 24238; Supplier 1: Digi-Key; Supplier Part Number 1: 493-1979-ND; ComponentLink1Description: Datasheet; ComponentLink1URL: http://nichicon-us.com/english/products/pdfs/e-upw.pdf; ComponentLink2Description: Digi-Key Listing; ComponentLink2URL: https://www.digikey.com/product-detail/en/nichicon/UPW2A181MHD/493-1979-ND/589720; Tolerance: 20%; Voltage: 100V; Price: 0.99; Device Package: Radial, Can, 12.5mm
footprint CAP AL TH D12.5 L5 H35.5
pins: 1, 2

## UPW2A181MHD6
designator C?, comment 180uF  (value not drawn)
CAP ALUM 180UF 20% 100V RADIAL; Part Number: UPW2A181MHD6; Manufacturer: Nichicon; TemperatureRange: -55C ~ 105C; Type: Polar; Ripple Current: 487.5mA @ 120Hz; Impedance: 130 mOhm; Value: 180uF; PartId: 26280; Supplier 1: Digi-Key; Supplier Part Number 1: 493-1980-ND; ComponentLink1Description: Datasheet; ComponentLink1URL: http://nichicon-us.com/english/products/pdfs/e-upw.pdf; ComponentLink2Description: Digi-Key Listing; ComponentLink2URL: https://www.digikey.com/product-detail/en/nichicon/UPW2A181MHD6/493-1980-ND/589721; Tolerance: 20%; Voltage: 100V; Price: 0.96; Device Package: Radial, Can, 16mm
footprint CAP AL TH D16 L7.5 H20
pins: 1, 2

## UPW2A181MHD6TN
designator C?, comment 180uF  (value not drawn)
CAP ALUM 180UF 20% 100V RADIAL; Part Number: UPW2A181MHD6TN; Manufacturer: Nichicon; TemperatureRange: -55C ~ 105C; Type: Polar; Ripple Current: 487.5mA @ 120Hz; Impedance: 130 mOhm; Value: 180uF; PartId: 26354; Supplier 1: Digi-Key; Supplier Part Number 1: 493-12189-3-ND; ComponentLink1Description: Datasheet; ComponentLink1URL: http://nichicon-us.com/english/products/pdfs/e-upw.pdf; ComponentLink2Description: Digi-Key Listing; ComponentLink2URL: https://www.digikey.com/product-detail/en/nichicon/UPW2A181MHD6TN/493-12189-3-ND/4321332; Tolerance: 20%; Voltage: 100V; Price: 0.5066; Device Package: Radial, Can, 16mm
footprint CAP AL TH D16 L7.5 H22
pins: 1, 2

## UPW2A221MHD
designator C?, comment 220uF  (value not drawn)
CAP ALUM 220UF 20% 100V RADIAL; Part Number: UPW2A221MHD; Manufacturer: Nichicon; TemperatureRange: -55C ~ 105C; Type: Polar; Ripple Current: 578.5mA @ 120Hz; Impedance: 100 mOhm; Value: 220uF; PartId: 26540; Supplier 1: Digi-Key; Supplier Part Number 1: 493-1981-ND; ComponentLink1Description: Datasheet; ComponentLink1URL: http://nichicon-us.com/english/products/pdfs/e-upw.pdf; ComponentLink2Description: Digi-Key Listing; ComponentLink2URL: https://www.digikey.com/product-detail/en/nichicon/UPW2A221MHD/493-1981-ND/589722; Tolerance: 20%; Voltage: 100V; Price: 0.99; Device Package: Radial, Can, 16mm
footprint CAP AL TH D16 L7.5 H26.5
pins: 1, 2

## UPW2A330MPD1TD
designator C?, comment 33uF  (value not drawn)
CAP ALUM 33UF 20% 100V RADIAL; Part Number: UPW2A330MPD1TD; Manufacturer: Nichicon; TemperatureRange: -55C ~ 105C; Type: Polar; Ripple Current: 96mA @ 120Hz; Impedance: 460 mOhm; Value: 33uF; PartId: 24540; Supplier 1: Digi-Key; Supplier Part Number 1: 493-11790-3-ND; ComponentLink1Description: Datasheet; ComponentLink1URL: http://nichicon-us.com/english/products/pdfs/e-upw.pdf; ComponentLink2Description: Digi-Key Listing; ComponentLink2URL: https://www.digikey.com/product-detail/en/nichicon/UPW2A330MPD1TD/493-11790-3-ND/4320933; Tolerance: 20%; Voltage: 100V; Price: 0.1472; Device Package: Radial, Can, 10mm
footprint CAP AL TH D10 L5 H14.5
pins: 1, 2

## UPW2A331MHD
designator C?, comment 330uF  (value not drawn)
CAP ALUM 330UF 20% 100V RADIAL; Part Number: UPW2A331MHD; Manufacturer: Nichicon; TemperatureRange: -55C ~ 105C; Type: Polar; Ripple Current: 702mA @ 120Hz; Impedance: 90 mOhm; Value: 330uF; PartId: 26568; Supplier 1: Digi-Key; Supplier Part Number 1: 493-1983-ND; ComponentLink1Description: Datasheet; ComponentLink1URL: http://nichicon-us.com/english/products/pdfs/e-upw.pdf; ComponentLink2Description: Digi-Key Listing; ComponentLink2URL: https://www.digikey.com/product-detail/en/nichicon/UPW2A331MHD/493-1983-ND/589724; Tolerance: 20%; Voltage: 100V; Price: 1.17; Device Package: Radial, Can, 16mm
footprint CAP AL TH D16 L7.5 H26.5
pins: 1, 2

## UPW2A331MHD1TN
designator C?, comment 330uF  (value not drawn)
CAP ALUM 330UF 20% 100V RADIAL; Part Number: UPW2A331MHD1TN; Manufacturer: Nichicon; TemperatureRange: -55C ~ 105C; Type: Polar; Ripple Current: 702mA @ 120Hz; Impedance: 90 mOhm; Value: 330uF; PartId: 26770; Supplier 1: Digi-Key; Supplier Part Number 1: 493-12265-3-ND; ComponentLink1Description: Datasheet; ComponentLink1URL: http://nichicon-us.com/english/products/pdfs/e-upw.pdf; ComponentLink2Description: Digi-Key Listing; ComponentLink2URL: https://www.digikey.com/product-detail/en/nichicon/UPW2A331MHD1TN/493-12265-3-ND/4321408; Tolerance: 20%; Voltage: 100V; Price: 0.6174; Device Package: Radial, Can, 16mm
footprint CAP AL TH D16 L7.5 H27
pins: 1, 2

## UPW2A470MPD
designator C?, comment 47uF  (value not drawn)
CAP ALUM 47UF 20% 100V RADIAL; Part Number: UPW2A470MPD; Manufacturer: Nichicon; TemperatureRange: -55C ~ 105C; Type: Polar; Ripple Current: 126mA @ 120Hz; Impedance: 370 mOhm; Value: 47uF; PartId: 25199; Supplier 1: Digi-Key; Supplier Part Number 1: 493-1973-ND; ComponentLink1Description: Datasheet; ComponentLink1URL: http://nichicon-us.com/english/products/pdfs/e-upw.pdf; ComponentLink2Description: Digi-Key Listing; ComponentLink2URL: https://www.digikey.com/product-detail/en/nichicon/UPW2A470MPD/493-1973-ND/589714; Tolerance: 20%; Voltage: 100V; Price: 0.5; Device Package: Radial, Can, 10mm
footprint CAP AL TH D10 L5 H17.5
pins: 1, 2

## UPW2A470MPD1TD
designator C?, comment 47uF  (value not drawn)
CAP ALUM 47UF 20% 100V RADIAL; Part Number: UPW2A470MPD1TD; Manufacturer: Nichicon; TemperatureRange: -55C ~ 105C; Type: Polar; Ripple Current: 126mA @ 120Hz; Impedance: 370 mOhm; Value: 47uF; PartId: 25008; Supplier 1: Digi-Key; Supplier Part Number 1: 493-11752-3-ND; ComponentLink1Description: Datasheet; ComponentLink1URL: http://nichicon-us.com/english/products/pdfs/e-upw.pdf; ComponentLink2Description: Digi-Key Listing; ComponentLink2URL: https://www.digikey.com/product-detail/en/nichicon/UPW2A470MPD1TD/493-11752-3-ND/4320895; Tolerance: 20%; Voltage: 100V; Price: 0.1548; Device Package: Radial, Can, 10mm
footprint CAP AL TH D10 L5 H17.5
pins: 1, 2

## UPW2A471MHD
designator C?, comment 470uF  (value not drawn)
CAP ALUM 470UF 20% 100V RADIAL; Part Number: UPW2A471MHD; Manufacturer: Nichicon; TemperatureRange: -55C ~ 105C; Type: Polar; Ripple Current: 983mA @ 120Hz; Impedance: 76 mOhm; Value: 470uF; PartId: 27168; Supplier 1: Digi-Key; Supplier Part Number 1: 493-1985-ND; ComponentLink1Description: Datasheet; ComponentLink1URL: http://nichicon-us.com/english/products/pdfs/e-upw.pdf; ComponentLink2Description: Digi-Key Listing; ComponentLink2URL: https://www.digikey.com/product-detail/en/nichicon/UPW2A471MHD/493-1985-ND/589726; Tolerance: 20%; Voltage: 100V; Price: 1.89; Device Package: Radial, Can, 16mm
footprint CAP AL TH D16 L7.5 H33.5
pins: 1, 2

## UPW2A680MPD
designator C?, comment 68uF  (value not drawn)
CAP ALUM 68UF 20% 100V RADIAL; Part Number: UPW2A680MPD; Manufacturer: Nichicon; TemperatureRange: -55C ~ 105C; Type: Polar; Ripple Current: 318.5mA @ 120Hz; Impedance: 300 mOhm; Value: 68uF; PartId: 25653; Supplier 1: Digi-Key; Supplier Part Number 1: 493-1975-ND; ComponentLink1Description: Datasheet; ComponentLink1URL: http://nichicon-us.com/english/products/pdfs/e-upw.pdf; ComponentLink2Description: Digi-Key Listing; ComponentLink2URL: https://www.digikey.com/product-detail/en/nichicon/UPW2A680MPD/493-1975-ND/589716; Tolerance: 20%; Voltage: 100V; Price: 0.74; Device Package: Radial, Can, 10mm
footprint CAP AL TH D10 L5 H22
pins: 1, 2

## UPW2A820MPD
designator C?, comment 82uF  (value not drawn)
CAP ALUM 82UF 20% 100V RADIAL; Part Number: UPW2A820MPD; Manufacturer: Nichicon; TemperatureRange: -55C ~ 105C; Type: Polar; Ripple Current: 351mA @ 120Hz; Impedance: 250 mOhm; Value: 82uF; PartId: 26128; Supplier 1: Digi-Key; Supplier Part Number 1: 493-1976-ND; ComponentLink1Description: Datasheet; ComponentLink1URL: http://nichicon-us.com/english/products/pdfs/e-upw.pdf; ComponentLink2Description: Digi-Key Listing; ComponentLink2URL: https://www.digikey.com/product-detail/en/nichicon/UPW2A820MPD/493-1976-ND/589717; Tolerance: 20%; Voltage: 100V; Price: 0.8; Device Package: Radial, Can, 10mm
footprint CAP AL TH D10 L5 H30
pins: 1, 2

## UPW2C101MHD
designator C?, comment 100uF  (value not drawn)
CAP ALUM 100UF 20% 160V RADIAL; Part Number: UPW2C101MHD; Manufacturer: Nichicon; TemperatureRange: -40C ~ 105C; Type: Polar; Ripple Current: 330mA @ 120Hz; Value: 100uF; PartId: 26537; Supplier 1: Digi-Key; Supplier Part Number 1: 493-1998-ND; ComponentLink1Description: Datasheet; ComponentLink1URL: http://nichicon-us.com/english/products/pdfs/e-upw.pdf; ComponentLink2Description: Digi-Key Listing; ComponentLink2URL: https://www.digikey.com/product-detail/en/nichicon/UPW2C101MHD/493-1998-ND/589739; Tolerance: 20%; Voltage: 160V; Price: 0.96; Device Package: Radial, Can, 16mm
footprint CAP AL TH D16 L7.5 H26.5
pins: 1, 2

## UPW2C220MPD
designator C?, comment 22uF  (value not drawn)
CAP ALUM 22UF 20% 160V RADIAL; Part Number: UPW2C220MPD; Manufacturer: Nichicon; TemperatureRange: -40C ~ 105C; Type: Polar; Ripple Current: 130mA @ 120Hz; Value: 22uF; PartId: 25585; Supplier 1: Digi-Key; Supplier Part Number 1: 493-1995-ND; ComponentLink1Description: Datasheet; ComponentLink1URL: http://nichicon-us.com/english/products/pdfs/e-upw.pdf; ComponentLink2Description: Digi-Key Listing; ComponentLink2URL: https://www.digikey.com/product-detail/en/nichicon/UPW2C220MPD/493-1995-ND/589736; Tolerance: 20%; Voltage: 160V; Price: 0.67; Device Package: Radial, Can, 10mm
footprint CAP AL TH D10 L5 H22
pins: 1, 2

## UPW2C330MHD
designator C?, comment 33uF  (value not drawn)
CAP ALUM 33UF 20% 160V RADIAL; Part Number: UPW2C330MHD; Manufacturer: Nichicon; TemperatureRange: -40C ~ 105C; Type: Polar; Ripple Current: 180mA @ 120Hz; Value: 33uF; PartId: 22854; Supplier 1: Digi-Key; Supplier Part Number 1: 493-1996-ND; ComponentLink1Description: Datasheet; ComponentLink1URL: http://nichicon-us.com/english/products/pdfs/e-upw.pdf; ComponentLink2Description: Digi-Key Listing; ComponentLink2URL: https://www.digikey.com/product-detail/en/nichicon/UPW2C330MHD/493-1996-ND/589737; Tolerance: 20%; Voltage: 160V; Price: 0; Device Package: Radial, Can, 12.5mm
footprint CAP AL TH D12.5 L5 H20
pins: 1, 2

## UPW2C330MHD1TO
designator C?, comment 33uF  (value not drawn)
CAP ALUM 33UF 20% 160V RADIAL; Part Number: UPW2C330MHD1TO; Manufacturer: Nichicon; TemperatureRange: -40C ~ 105C; Type: Polar; Ripple Current: 180mA @ 120Hz; Value: 33uF; PartId: 23269; Supplier 1: Digi-Key; Supplier Part Number 1: 493-11998-1-ND; ComponentLink1Description: Datasheet; ComponentLink1URL: http://nichicon-us.com/english/products/pdfs/e-upw.pdf; ComponentLink2Description: Digi-Key Listing; ComponentLink2URL: https://www.digikey.com/product-detail/en/nichicon/UPW2C330MHD1TO/493-11998-1-ND/4320093; Tolerance: 20%; Voltage: 160V; Price: 0.75; Device Package: Radial, Can, 12.5mm
footprint CAP AL TH D12.5 L5 H22
pins: 1, 2

## UPW2C470MHD
designator C?, comment 47uF  (value not drawn)
CAP ALUM 47UF 20% 160V RADIAL; Part Number: UPW2C470MHD; Manufacturer: Nichicon; TemperatureRange: -40C ~ 105C; Type: Polar; Ripple Current: 220mA @ 120Hz; Value: 47uF; PartId: 23550; Supplier 1: Digi-Key; Supplier Part Number 1: 493-1997-ND; ComponentLink1Description: Datasheet; ComponentLink1URL: http://nichicon-us.com/english/products/pdfs/e-upw.pdf; ComponentLink2Description: Digi-Key Listing; ComponentLink2URL: https://www.digikey.com/product-detail/en/nichicon/UPW2C470MHD/493-1997-ND/589738; Tolerance: 20%; Voltage: 160V; Price: 0.85; Device Package: Radial, Can, 12.5mm
footprint CAP AL TH D12.5 L5 H25
pins: 1, 2

## UPW2C470MHD1TO
designator C?, comment 47uF  (value not drawn)
CAP ALUM 47UF 20% 160V RADIAL; Part Number: UPW2C470MHD1TO; Manufacturer: Nichicon; TemperatureRange: -40C ~ 105C; Type: Polar; Ripple Current: 220mA @ 120Hz; Value: 47uF; PartId: 23888; Supplier 1: Digi-Key; Supplier Part Number 1: 493-12069-1-ND; ComponentLink1Description: Datasheet; ComponentLink1URL: http://nichicon-us.com/english/products/pdfs/e-upw.pdf; ComponentLink2Description: Digi-Key Listing; ComponentLink2URL: https://www.digikey.com/product-detail/en/nichicon/UPW2C470MHD1TO/493-12069-1-ND/4320095; Tolerance: 20%; Voltage: 160V; Price: 0.85; Device Package: Radial, Can, 12.5mm
footprint CAP AL TH D12.5 L5 H27
pins: 1, 2

## UPW2C471MRD
designator C?, comment 470uF  (value not drawn)
CAP ALUM 470UF 20% 160V RADIAL; Part Number: UPW2C471MRD; Manufacturer: Nichicon; TemperatureRange: -40C ~ 105C; Type: Polar; Ripple Current: 1.2A @ 120Hz; Value: 470uF; PartId: 27607; Supplier 1: Digi-Key; Supplier Part Number 1: 493-2002-ND; ComponentLink1Description: Datasheet; ComponentLink1URL: http://nichicon-us.com/english/products/pdfs/e-upw.pdf; ComponentLink2Description: Digi-Key Listing; ComponentLink2URL: https://www.digikey.com/product-detail/en/nichicon/UPW2C471MRD/493-2002-ND/589743; Tolerance: 20%; Voltage: 160V; Price: 3.71; Device Package: Radial, Can, 22mm
footprint CAP AL TH D22 L10 H53
pins: 1, 2

## UPW2D4R7MPD1TD
designator C?, comment 4.7uF  (value not drawn)
CAP ALUM 4.7UF 20% 200V RADIAL; Part Number: UPW2D4R7MPD1TD; Manufacturer: Nichicon; TemperatureRange: -40C ~ 105C; Type: Polar; Ripple Current: 50mA @ 120Hz; Value: 4.7uF; PartId: 24896; Supplier 1: Digi-Key; Supplier Part Number 1: 493-11776-1-ND; ComponentLink1Description: Datasheet; ComponentLink1URL: http://nichicon-us.com/english/products/pdfs/e-upw.pdf; ComponentLink2Description: Digi-Key Listing; ComponentLink2URL: https://www.digikey.com/product-detail/en/nichicon/UPW2D4R7MPD1TD/493-11776-1-ND/4320105; Tolerance: 20%; Voltage: 200V; Price: 0.48; Device Package: Radial, Can, 10mm
footprint CAP AL TH D10 L5 H14.5
pins: 1, 2

## UPW2D100MPD
designator C?, comment 10uF  (value not drawn)
CAP ALUM 10UF 20% 200V RADIAL; Part Number: UPW2D100MPD; Manufacturer: Nichicon; TemperatureRange: -40C ~ 105C; Type: Polar; Ripple Current: 80mA @ 120Hz; Value: 10uF; PartId: 25217; Supplier 1: Digi-Key; Supplier Part Number 1: 493-2008-ND; ComponentLink1Description: Datasheet; ComponentLink1URL: http://nichicon-us.com/english/products/pdfs/e-upw.pdf; ComponentLink2Description: Digi-Key Listing; ComponentLink2URL: https://www.digikey.com/product-detail/en/nichicon/UPW2D100MPD/493-2008-ND/589749; Tolerance: 20%; Voltage: 200V; Price: 0.53; Device Package: Radial, Can, 10mm
footprint CAP AL TH D10 L5 H17.5
pins: 1, 2

## UPW2D101MHD
designator C?, comment 100uF  (value not drawn)
CAP ALUM 100UF 20% 200V RADIAL; Part Number: UPW2D101MHD; Manufacturer: Nichicon; TemperatureRange: -40C ~ 105C; Type: Polar; Ripple Current: 335mA @ 120Hz; Value: 100uF; PartId: 27058; Supplier 1: Digi-Key; Supplier Part Number 1: 493-2012-ND; ComponentLink1Description: Datasheet; ComponentLink1URL: http://nichicon-us.com/english/products/pdfs/e-upw.pdf; ComponentLink2Description: Digi-Key Listing; ComponentLink2URL: https://www.digikey.com/product-detail/en/nichicon/UPW2D101MHD/493-2012-ND/589753; Tolerance: 20%; Voltage: 200V; Price: 1.59; Device Package: Radial, Can, 16mm
footprint CAP AL TH D16 L7.5 H33.5
pins: 1, 2

## UPW2D220MPD
designator C?, comment 22uF  (value not drawn)
CAP ALUM 22UF 20% 200V RADIAL; Part Number: UPW2D220MPD; Manufacturer: Nichicon; TemperatureRange: -40C ~ 105C; Type: Polar; Ripple Current: 140mA @ 120Hz; Value: 22uF; PartId: 25592; Supplier 1: Digi-Key; Supplier Part Number 1: 493-2009-ND; ComponentLink1Description: Datasheet; ComponentLink1URL: http://nichicon-us.com/english/products/pdfs/e-upw.pdf; ComponentLink2Description: Digi-Key Listing; ComponentLink2URL: https://www.digikey.com/product-detail/en/nichicon/UPW2D220MPD/493-2009-ND/589750; Tolerance: 20%; Voltage: 200V; Price: 0.68; Device Package: Radial, Can, 10mm
footprint CAP AL TH D10 L5 H22
pins: 1, 2